# EAGLE library part NUCLEO-STM32-SWD (library mplab)
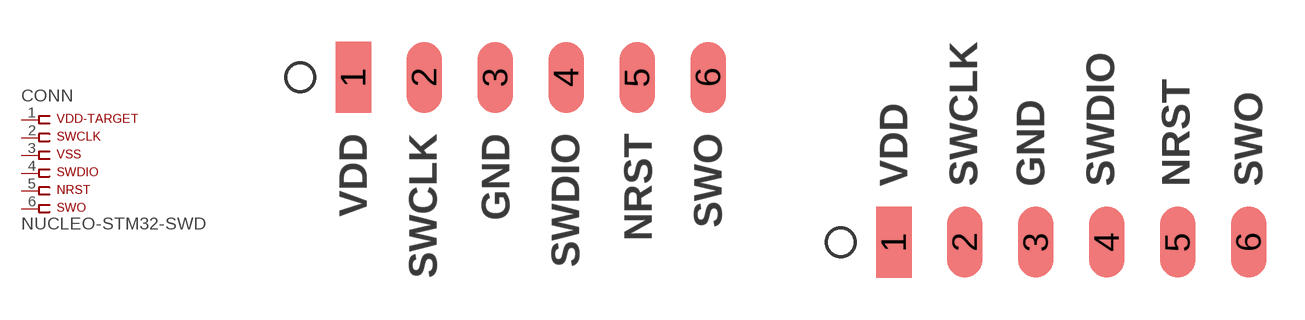
[diagram p1: symbol with the pads of POGO_PINS_6_PIN-LEFT; footprints POGO_PINS_6_PIN-LEFT, POGO_PINS_6_PIN-RIGHT]

Designator prefix CONN

## NUCLEO-STM32-SWD  [POGO_PINS_6_PIN-LEFT]
1  1  pas
2  2  pas
3  3  pas
4  4  pas
5  5  pas
6  6  pas

## NUCLEO-STM32-SWD-RIGHT  [POGO_PINS_6_PIN-RIGHT]
Pads as for POGO_PINS_6_PIN-LEFT

## Footprint POGO_PINS_6_PIN-LEFT (pad centres in mm)
smd 1.27 x 2.54: 1 0,0; 2 2.54,0; 3 5.08,0; 4 7.62,0; 5 10.16,0; 6 12.7,0

## Footprint POGO_PINS_6_PIN-RIGHT (pad centres in mm)
smd 1.27 x 2.54: 1 0,0; 2 2.54,0; 3 5.08,0; 4 7.62,0; 5 10.16,0; 6 12.7,0